# EAGLE library part IC_ADC_MAX111** (library dp_devices)
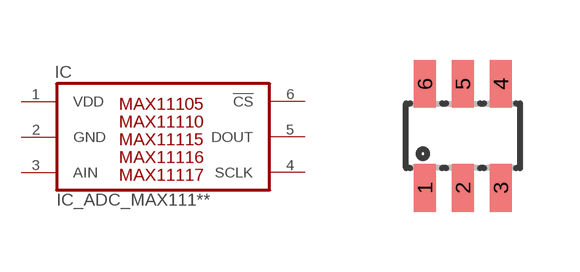
[diagram p20: symbol with the pads of SOT-23-6; footprint SOT-23-6]

Designator prefix IC

## IC_ADC_MAX111-SOT-23-6  [SOT-23-6]
1  VDD  pwr
2  GND  pwr
3  AIN  in
4  SCLK  in
5  DOUT  out
6  !CS  in

## Footprint SOT-23-6 (pad centres in mm)
smd 0.55 x 1.2: 1 -0.95,-1.3; 2 0,-1.3; 3 0.95,-1.3; 4 0.95,1.3; 5 0,1.3; 6 -0.95,1.3